# Altium schematic symbol library 2019-05-08_15-36-24.SchLib: 2 symbols
Pins are listed as number, name and electrical type; pins without a type are passive.

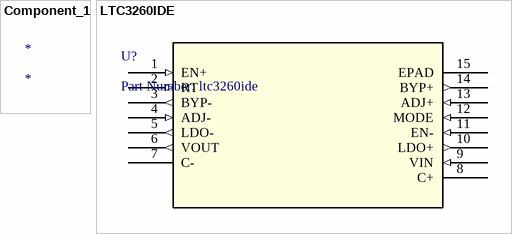
[diagram p0: symbols Component_1 to LTC3260IDE]

## Component_1
designator *

## LTC3260IDE
designator U?, comment Part Number: ltc3260ide
No Description Available; Vendor: Linear Technology; Manufacturer_Part_Number: ltc3260ide; Copyright: Copyright (C) 2018 Accelerated Designs. All rights reserved; RefDes: RefDes; Type: DEV; Value: Value
footprint DFN-14_DE
pins: 1 EN+ (in), 2 RT (in), 3 BYP- (out), 4 ADJ- (in), 5 LDO- (out), 6 VOUT (out), 7 C-, 8 C+, 9 VIN (in), 10 LDO+ (out), 11 EN- (in), 12 MODE (in), 13 ADJ+ (in), 14 BYP+ (out), 15 EPAD